# Altium integrated library APDS-9300.IntLib: 1 symbol
Pins are listed as number, name and electrical type; pins without a type are passive.

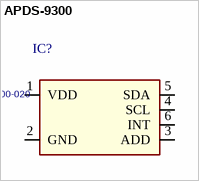
[diagram p0: symbol APDS-9300]

## APDS-9300
designator IC?, comment APDS-9300-020
ID: APDS-9300-020; PRICE: 1.71000; PDF: http://www.avagotech.com/docs/AV02-1077EN; BUY_LINK: http://www.digikey.com/product-detail/en/APDS-9300-020/516-2134-1-ND/2179430
footprint APDS-9300
pins: 1 VDD, 2 GND, 3 ADD, 4 SCL, 5 SDA, 6 INT